# Altium footprint library PcbLib1.PcbLib: 5 footprints
Each footprint in its own frame and in the unit in brackets; x right, y up, seen from the top. Pads: shape width x height; smd on the part's side, far side on the other; paste and mask are expansions set on the pad; w line width, h text height; cw(c..) or ccw(c..) is an arc to the next point about the centre after c.
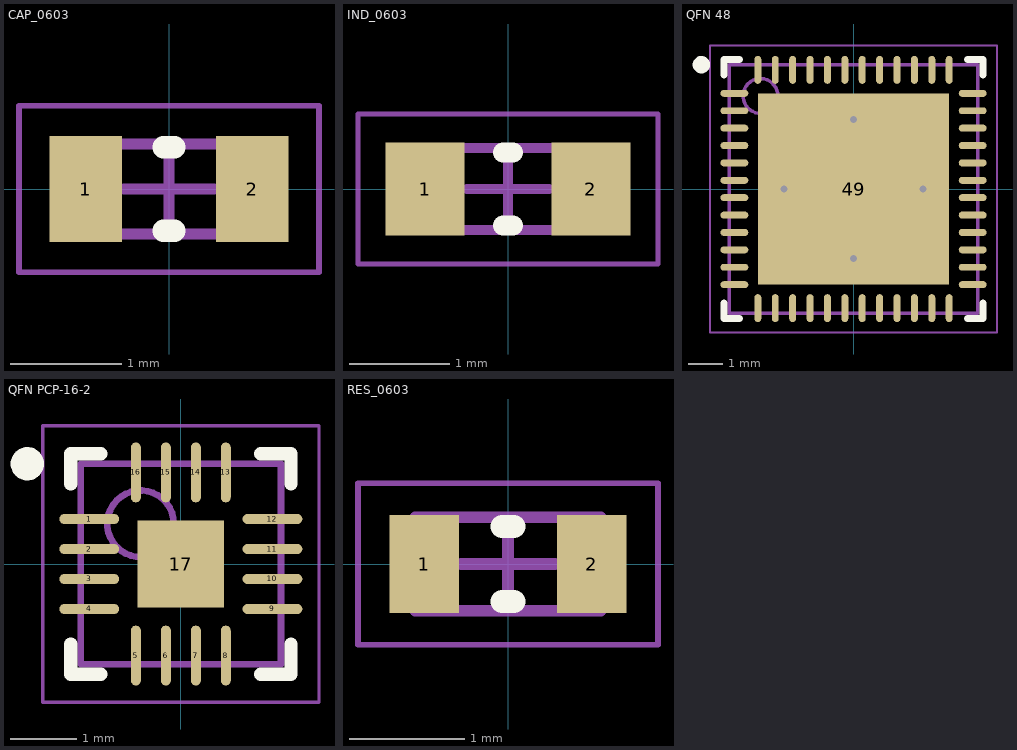
[diagram p0: the footprints below, top view; thin cyan lines are the x and y axes]

## CAP_0603 [mm] "Chip Capacitor, 2-Leads, Body 1,60x0,80mm, IPC Medium Density"
height 0.9
pads (2):
  rect 0.65x0.95 smd: 1(-0.75,0) 2(0.75,0)
Top Overlay:
  lines w0.2: -0.05,-0.375 0.05,-0.375 ; -0.05,0.375 0.05,0.375
Mechanical 13:
  lines w0.1: -0.805,-0.405 -0.805,0.405 0.805,0.405 0.805,-0.405 -0.805,-0.405
Mechanical 15:
  lines w0.05: -1.35,-0.75 -1.35,0.75 1.35,0.75 1.35,-0.75 -1.35,-0.75
  lines w0.1: -0.405,0 0.405,0 ; 0,-0.405 0,0.405
3D body: height 0.9, standoff 0, extent -0.505,-0.405 0.505,0.405
3D body: height 0.9, standoff 0, extent -0.805,-0.405 -0.505,0.405
3D body: height 0.9, standoff 0, extent 0.505,-0.405 0.805,0.405

## IND_0603 [mm] "Chip Inductor, 2-Leads, Body 1,60x0,80mm, IPC Medium Density"
height 0.95
pads (2):
  rect 0.79x0.93 smd: 1(-0.83,0) 2(0.83,0)
Top Overlay:
  lines w0.2: -0.05,-0.365 0.05,-0.365 ; -0.05,0.365 0.05,0.365
Mechanical 13:
  lines w0.1: -0.81,-0.41 -0.81,0.41 0.81,0.41 0.81,-0.41 -0.81,-0.41
Mechanical 15:
  lines w0.05: -1.5,-0.75 -1.5,0.75 1.5,0.75 1.5,-0.75 -1.5,-0.75
  lines w0.1: -0.41,0 0.41,0 ; 0,-0.41 0,0.41
3D body: height 0.95, standoff 0, extent -0.51,-0.41 0.51,0.41
3D body: height 0.95, standoff 0, extent -0.81,-0.41 -0.51,0.41
3D body: height 0.95, standoff 0, extent 0.51,-0.41 0.81,0.41

## QFN 48 [mm] "QFN, 48-Leads, Body 7,00x7,00mm, Pitch 0,50mm, Thermal Pad 5,60x5,60mm, IPC Medium Density"
height 1
pads (49):
  oval 0.8x0.2 smd: 1(-3.425,2.75) 2(-3.425,2.25) 3(-3.425,1.75) 4(-3.425,1.25) 5(-3.425,0.75) 6(-3.425,0.25) 7(-3.425,-0.25) 8(-3.425,-0.75) 9(-3.425,-1.25) 10(-3.425,-1.75) 11(-3.425,-2.25) 12(-3.425,-2.75) 25(3.425,-2.75) 26(3.425,-2.25) 27(3.425,-1.75) 28(3.425,-1.25) 29(3.425,-0.75) 30(3.425,-0.25) 31(3.425,0.25) 32(3.425,0.75) 33(3.425,1.25) 34(3.425,1.75) 35(3.425,2.25) 36(3.425,2.75)
  oval 0.2x0.8 smd: 13(-2.75,-3.425) 14(-2.25,-3.425) 15(-1.75,-3.425) 16(-1.25,-3.425) 17(-0.75,-3.425) 18(-0.25,-3.425) 19(0.25,-3.425) 20(0.75,-3.425) 21(1.25,-3.425) 22(1.75,-3.425) 23(2.25,-3.425) 24(2.75,-3.425) 37(2.75,3.425) 38(2.25,3.425) 39(1.75,3.425) 40(1.25,3.425) 41(0.75,3.425) 42(0.25,3.425) 43(-0.25,3.425) 44(-0.75,3.425) 45(-1.25,3.425) 46(-1.75,3.425) 47(-2.25,3.425) 48(-2.75,3.425)
  rect 5.5x5.5 smd: 49(0,0)
via 0,-2 diameter 0.5 hole 0.2
via -2,0 diameter 0.5 hole 0.2
via 0,2 diameter 0.5 hole 0.2
via 2,0 diameter 0.5 hole 0.2
Top Overlay:
  circle w0.25: c-4.375,3.575 r0.125
  lines w0.2: -3.725,-3.275 -3.725,-3.725 -3.275,-3.725 ; -3.725,3.275 -3.725,3.725 -3.275,3.725 ; 3.275,-3.725 3.725,-3.725 3.725,-3.275 ; 3.275,3.725 3.725,3.725 3.725,3.275
Mechanical 13:
  circle w0.1: c-2.675,2.675 r0.5
  lines w0.1: -3.575,-3.575 -3.575,3.575 3.575,3.575 3.575,-3.575 -3.575,-3.575
Mechanical 15:
  lines w0.05: -4.125,-4.125 -4.125,4.125 4.125,4.125 4.125,-4.125 -4.125,-4.125
  lines w0.1: -0.5,0 0.5,0 ; 0,-0.5 0,0.5
3D body: height 1, standoff 0.05, extent -3.575,-3.575 3.575,3.575

## QFN PCP-16-2 [mm] "QFN, 16-Leads, Body 3,00x3,00mm, Pitch 0,45mm, Thermal Pad 1,30x1,30mm, IPC Medium Density"
height 0.8
pads (17):
  oval 0.9x0.15 smd: 1(-1.375,0.675) 2(-1.375,0.225) 3(-1.375,-0.225) 4(-1.375,-0.675) 9(1.375,-0.675) 10(1.375,-0.225) 11(1.375,0.225) 12(1.375,0.675)
  oval 0.15x0.9 smd: 5(-0.675,-1.375) 6(-0.225,-1.375) 7(0.225,-1.375) 8(0.675,-1.375) 13(0.675,1.375) 14(0.225,1.375) 15(-0.225,1.375) 16(-0.675,1.375)
  rect 1.3x1.3 smd: 17(0,0)
Top Overlay:
  circle w0.25: c-2.305,1.505 r0.125
  lines w0.2: -1.655,-1.2 -1.655,-1.655 -1.2,-1.655 ; -1.655,1.2 -1.655,1.655 -1.2,1.655 ; 1.2,-1.655 1.655,-1.655 1.655,-1.2 ; 1.2,1.655 1.655,1.655 1.655,1.2
Mechanical 13:
  circle w0.1: c-0.605,0.605 r0.5
  lines w0.1: -1.505,-1.505 1.505,-1.505 1.505,1.505 -1.505,1.505 -1.505,-1.505
Mechanical 15:
  lines w0.05: -2.075,-2.075 2.075,-2.075 2.075,2.075 -2.075,2.075 -2.075,-2.075
  lines w0.1: -0.5,0 0.5,0 ; 0,-0.5 0,0.5
3D body: height 0.8, standoff 0.02, extent -1.505,-1.505 1.505,1.505

## RES_0603 [mm] "Chip Resistor, 2-Leads, Body 1,60x0,80mm, IPC Medium Density"
height 0.6
pads (2):
  rect 0.6x0.85 smd: 1(-0.725,0) 2(0.725,0)
Top Overlay:
  lines w0.2: -0.05,-0.325 0.05,-0.325 ; -0.05,0.325 0.05,0.325
Mechanical 13:
  lines w0.1: -0.805,-0.405 0.805,-0.405 0.805,0.405 -0.805,0.405 -0.805,-0.405
Mechanical 15:
  lines w0.05: -1.3,-0.7 1.3,-0.7 1.3,0.7 -1.3,0.7 -1.3,-0.7
  lines w0.1: -0.405,0 0.405,0 ; 0,-0.405 0,0.405
3D body: height 0.6, standoff 0, extent 0.505,-0.405 0.805,0.405
3D body: height 0.6, standoff 0, extent -0.805,-0.405 -0.505,0.405
3D body: height 0.6, standoff 0, extent -0.505,-0.405 0.505,0.405